# EAGLE library part L4938EPD13TR (library LDO)
IC REG LINEAR POS ADJ POWERSO20 Manufacturer's datasheet <https://www.st.com/content/ccc/resource/technical/document/datasheet/3f/68/c3/3d/47/04/4d/c0/CD00267790.pdf/files/CD00267790.pdf/jcr:content/translations/en.CD00267790.pdf>
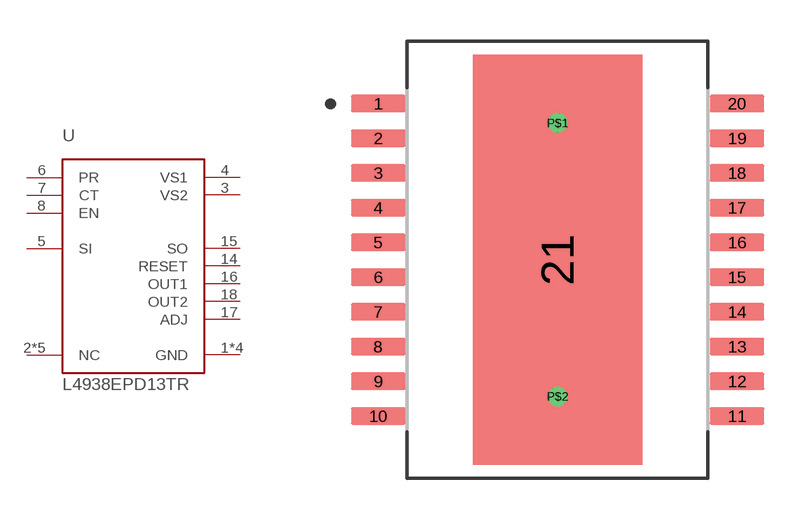
[diagram p1: symbol with the pads of L4938EPD13TR; footprint L4938EPD13TR]

Designator prefix U

## L4938EPD13TR (CREATED_BY: PCBLayout.com; DIGIKEY_PN: 497-3915-1-ND; MANUFACTURER: STMicroelectronics; MPN: L4938EPD13TR; PACKAGE: PowerSO-20)  [L4938EPD13TR]
1  GND  pwr
2  NC  pas
3  VS2  pwr
4  VS1  pwr
5  SI  in
6  PR
7  CT
8  EN
9  NC  pas
10  GND  pwr
11  GND  pwr
12  NC  pas
13  NC  pas
14  RESET  out
15  SO  out
16  OUT1  out
17  ADJ
18  OUT2  out
19  NC  pas
20  GND  pwr

## Footprint L4938EPD13TR (pad centres in mm)
smd 1.99 x 0.63: 1 -6.56,5.715; 2 -6.56,4.445; 3 -6.56,3.175; 4 -6.56,1.905; 5 -6.56,0.635; 6 -6.56,-0.635; 7 -6.56,-1.905; 8 -6.56,-3.175; 9 -6.56,-4.445; 10 -6.56,-5.715; 11 6.56,-5.715; 12 6.56,-4.445; 13 6.56,-3.175; 14 6.56,-1.905; 15 6.56,-0.635; 16 6.56,0.635; 17 6.56,1.905; 18 6.56,3.175; 19 6.56,4.445; 20 6.56,5.715
smd 6.2 x 15: 21 0,0
drill 0.2 pad 0.5: P$1 0,5; P$2 0,-5